# Altium schematic symbol library Phonejack3 RN.SchLib: 1 symbol
Pins are listed as number, name and electrical type; pins without a type are passive.

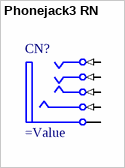
[diagram p0: symbol Phonejack3 RN]

## Phonejack3 RN
designator CN?
=Description
pins: 1 (power) "Sleeve (Ground)", 2 (in) "Ring/Right Channel/(-)", 3 (in) "Tip/Left Channel/(+)", 4 (in) "Tip/Left Channel/(+)", 5 (in) "Tip/Left Channel/(+)"